# Altium schematic symbol library PF_Schlib.SchLib: 10 symbols
Pins are listed as number, name and electrical type; pins without a type are passive.

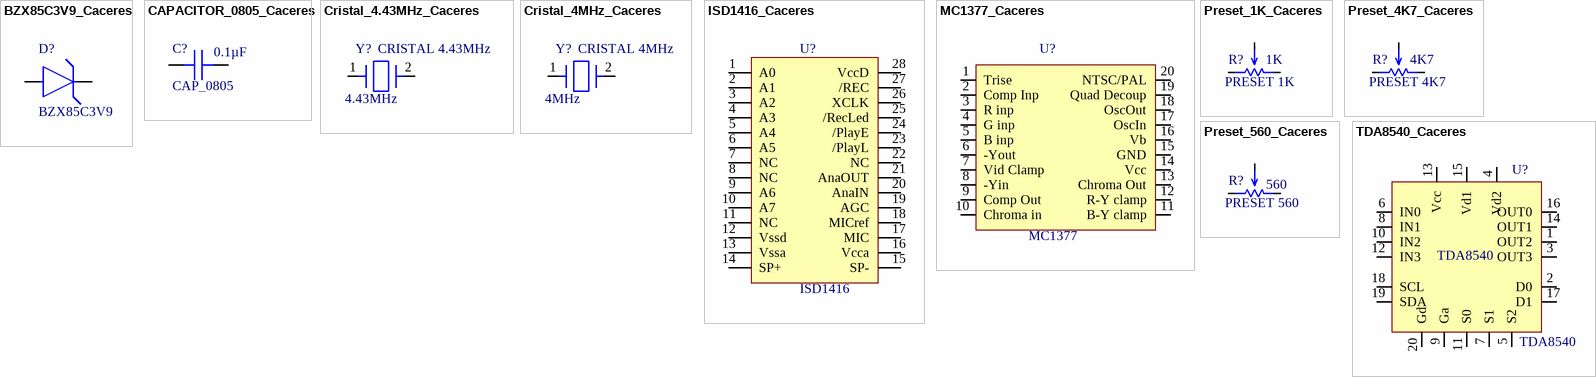
[diagram p0: symbols BZX85C3V9_Caceres to TDA8540_Caceres]

## BZX85C3V9_Caceres
designator D?, comment BZX85C3V9
Diodo Zener 3.9V, BZX85C3V9, Thru Hole; PartNumber: BZX85C3V9-TR; Manufacturer: Fairchild Semiconductor; Package: DO-41; ZenerVoltage: 3.9V; ComponentLink1Description: Datasheet1; ComponentLink1URL: https://www.mouser.com/datasheet/2/308/BZX85C3V9-1300112.pdf; ComponentLink2Description: Datasheet2; ComponentLink2URL: https://www.vishay.com/docs/85607/bzx85.pdf
footprint AXIAL_LEAD_D0-41_BZX85C3V9_DCACERES
pins: 1, 2

## CAPACITOR_0805_Caceres
designator C?, comment CAP_0805  value 0.1µF
Capacitor SMD, encapsulado 0805; SizePackage: 0805; ComponentLink1Description: Datasheet1; ComponentLink1URL: https://www.mouser.com/datasheet/2/40/AutoMLCCKAM-3216307.pdf; ComponentLink2Description: Datasheet2; ComponentLink2URL: https://www.mouser.com/datasheet/2/447/KEM_C1086_U2J-3316409.pdf; ComponentLink3Description: Datasheet3; ComponentLink3URL: https://product.tdk.com/system/files/dam/doc/product/capacitor/ceramic/mlcc/catalog/mlcc_commercial_soft_en.pdf
footprint 0805_CAPACITOR_DCACERES
pins: 1, 2

## Cristal_4.43MHz_Caceres
designator Y?, comment CRISTAL 4.43MHz  Frequency: 4.43MHz
Cristal SMD 4.43MHz; PartNumber: ABLS-4.433619MHZ-B4-T; Manufacturer: Abracon; ComponentLink1Description: Datasheet; ComponentLink1URL: https://www.mouser.com/datasheet/2/3/abls-1664338.pdf; ComponentLink2Description: URL Link1; ComponentLink2URL: https://www.mouser.com/ProductDetail/ABRACON/ABLS-4.433619MHZ-B4-T?qs=yTU0IcKoRlG9N56A3ODkIg%3D%3D; ComponentLink3Description: URL Link2; ComponentLink3URL: https://www.digikey.com/en/products/detail/abracon-llc/ABLS-4-433619MHZ-B4-T/2184147?s=N4IgTCBcDaIIICEAyBlAtAFgHQYMy4DYBGATgFkAJALTQQzQBUQBdAXyA; Package: HC-49/US; TerminalForm: SMD; Series: ABLS
footprint HC-49/US_SMD_CRISTAL 4.43MHz_DCACERES
pins: 1, 2

## Cristal_4MHz_Caceres
designator Y?, comment CRISTAL 4MHz  Frequency: 4MHz
Cristal SMD 4.00MHz; PartNumber: ABLS-4.000MHZ-K4T; Manufacturer: Abracon; ComponentLink1Description: Datasheet; ComponentLink1URL: https://www.mouser.com/datasheet/2/3/abls-1664338.pdf; Package: HC-49/US; TerminalForm: SMD; Series: ABLS; ComponentLink2Description: URL Link1; ComponentLink2URL: https://www.mouser.com/ProductDetail/ABRACON/ABLS-4.000MHZ-K4T?qs=uDmhV2jwPRfEVDsdVpSQ5A%3D%3D; ComponentLink3Description: URL Link2; ComponentLink3URL: https://www.digikey.com/en/products/detail/abracon-llc/ABLS-4-000MHZ-K4T/2001297
footprint HC-49/US_SMD_CRISTAL 4MHz_DCACERES
pins: 1, 2

## ISD1416_Caceres
designator U?, comment ISD1416
ISD1416P, Thru Hole / IC MEM VOICE REC/PLAY 16S 28DIP / 28-Lead 0.600-Inch Plastic Dual Inline Package (PDIP); Manufacturer: Nuvoton; ComponentLink1Description: Datasheet1; ComponentLink1URL: https://pdf1.alldatasheet.com/datasheet-pdf/view/80293/ETC/ISD1416.html; PartNumber: ISD1416P; Package: PDIP-28; ComponentLink2Description: Datasheet2; ComponentLink2URL: https://datasheet.ciiva.com/1788/isd1400-rev1-3-1788428.pdf?src-supplier=Digi-Key
footprint 28-Lead_0.600-Inch_PDIP_ISD1416_DCACERES
pins: 1 A0, 2 A1, 3 A2, 4 A3, 5 A4, 6 A5, 7 NC, 8 NC, 9 A6, 10 A7, 11 NC, 12 Vssd, 13 Vssa, 14 SP+, 15 SP-, 16 Vcca, 17 MIC, 18 MICref, 19 AGC, 20 AnaIN, 21 AnaOUT, 22 NC, 23 /PlayL, 24 /PlayE, 25 /RecLed, 26 XCLK, 27 /REC, 28 VccD

## MC1377_Caceres
designator U?, comment MC1377
MC1377, Thru Hole; PartNumber: MC1377P; Manufacturer: Motorola; ComponentLink1Description: Datasheet; ComponentLink1URL: https://datasheet.ciiva.com/pdfs/VipMasterIC/IC/MOTO/MOTOS06243/MOTOS06243-1.pdf?src-supplier=IHS+Markit; PackageReference: DIP20 CASE 738; Terminal Form: Through Hole
footprint CASE 738-03_ISSUE E_MC1377_DCACERES
pins: 1 Trise, 2 Comp Inp, 3 R inp, 4 G inp, 5 B inp, 6 -Yout, 7 Vid Clamp, 8 -Yin, 9 Comp Out, 10 Chroma in, 11 B-Y clamp, 12 R-Y clamp, 13 Chroma Out, 14 Vcc, 15 GND, 16 Vb, 17 OscIn, 18 OscOut, 19 Quad Decoup, 20 NTSC/PAL

## Preset_1K_Caceres
designator R?, comment PRESET 1K  value 1K
Preset 1k, Thru Hole / Manufacturer Part Search 3386P-1-472LF; PartNumber: 3386P-1-472LF; ComponentLink1Description: Package Specification; ComponentLink1URL: https://ar.mouser.com/datasheet/2/54/3386-776606.pdf; ComponentLink2Description: URL Link; ComponentLink2URL: https://www.mouser.com/ProductDetail/Bourns/3386P-1-472LF?qs=g1MxsQ5vwlSvqan31esVSg%3D%3D
footprint 3386P_PRESET_1K_DCaceres
pins: 1, 2 1, 3

## Preset_4K7_Caceres
designator R?, comment PRESET 4K7  value 4K7
Preset 4K7, Thru HoleManufacturer Part Search 3386P-1-472LF; PartNumber: 3386P-1-472LF; ComponentLink1Description: Package Specification; ComponentLink1URL: https://ar.mouser.com/datasheet/2/54/3386-776606.pdf; ComponentLink2Description: URL Link; ComponentLink2URL: https://www.mouser.com/ProductDetail/Bourns/3386P-1-472LF?qs=g1MxsQ5vwlSvqan31esVSg%3D%3D
footprint 3386P_PRESET_4K7_DCaceres
pins: 1, 2 1, 3

## Preset_560_Caceres
designator R?, comment PRESET 560  value 560
Preset 560, Thru Hole / Manufacturer Part Search 3386P-1-472LF; PartNumber: 3386P-1-472LF; ComponentLink1Description: Package Specification; ComponentLink1URL: https://ar.mouser.com/datasheet/2/54/3386-776606.pdf; ComponentLink2Description: URL Link; ComponentLink2URL: https://www.mouser.com/ProductDetail/Bourns/3386P-1-472LF?qs=g1MxsQ5vwlSvqan31esVSg%3D%3D
footprint 3386P_PRESET_560_DCaceres
pins: 1, 2 1, 3

## TDA8540_Caceres
designator U?, comment TDA8540
TDA8540, Thtu Hole / Plastic dual in-line package; 20 leads (300 mil); DIP20; SOT146-1.; ComponentLink1Description: Datasheet; ComponentLink1URL: https://pdf1.alldatasheet.es/datasheet-pdf/view/19499/PHILIPS/TDA8540.html; ComponentLink2Description: URL Link; ComponentLink2URL: https://www.nxp.com/products/no-longer-manufactured/tda8540t:TDA8540T; ComponentLink3Description: Discontinuation Notice; ComponentLink3URL: https://www.nxp.com/wcm_documents/products/eol/dn46exha.pdf; ComponentLink4Description: Package Specification; ComponentLink4URL: https://html.alldatasheet.es/html-pdf/19499/PHILIPS/TDA8540/3258/13/TDA8540.html; PartNumber: TDA8540; PackageReference: DIP20; Status: Discontinued
footprint SOT146-1_DIP20_TDA8540_DCACERES
pins: 1 OUT2, 2 D0, 3 OUT3, 4 Vd2, 5 S2, 6 IN0, 7 S1, 8 IN1, 9 Ga, 10 IN2, 11 S0, 12 IN3, 13 Vcc, 14 OUT1, 15 Vd1, 16 OUT0, 17 D1, 18 SCL, 19 SDA, 20 Gd